# Altium schematic symbol library Amplifiers_and_Linear_Schlib.SchLib: 16 symbols
Pins are listed as number, name and electrical type; pins without a type are passive.

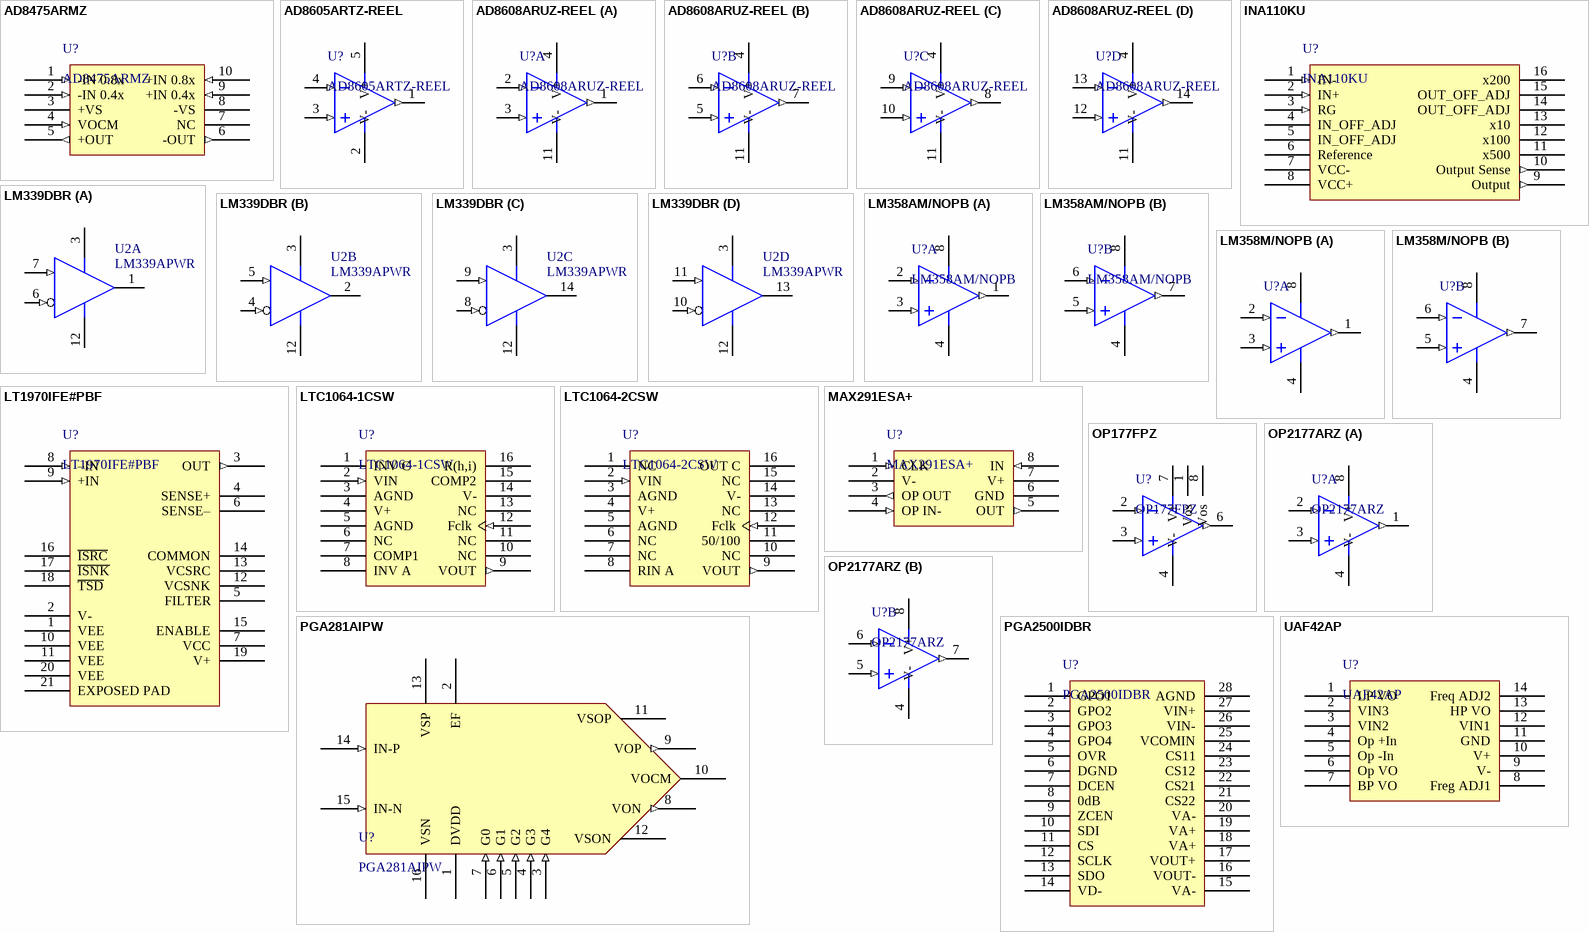
[diagram p0: symbols AD8475ARMZ to UAF42AP]

## AD8475ARMZ
designator U?
微分放大器 Prec Selectable Gain Funnel, MSOP 10P; 製造商: Analog Devices; 單價: 186.96; 參考網站: mouser; 參考網站: http://www.mouser.tw/ProductDetail/Analog-Devices/AD8475ARMZ/?qs=sGAEpiMZZMsFOcXqMdeHCZr1fvJ1U5LpDumODZtU%252bjs%3d; 資料手冊: http://www.mouser.com/ds/2/609/AD8475-877859.pdf
footprint MSOP 10P (3mm X 3mm (0.5mm))
pins: 1 -IN 0.8x (in), 2 -IN 0.4x (in), 3 +VS (power), 4 VOCM (in), 5 +OUT (out), 6 -OUT (out), 7 NC, 8 -VS (power), 9 +IN 0.4x (in), 10 +IN 0.8x (in)

## AD8605ARTZ-REEL
designator U?
精密放大器 Prec Low Noise CMOS RRIO SGL, SOT23-5; 製造商: Analog Devices; 單價: 58.51; 代理商: mouser; 參考網站: http://www.mouser.tw/ProductDetail/Analog-Devices/AD8605ARTZ-REEL/?qs=sGAEpiMZZMv9Q1JI0Mo%2ftcFMVY9cd4lZ; 資料手冊: http://www.mouser.com/ds/2/609/AD8605_8606_8608-243312.pdf
footprint SOT23-5
pins: 1 OUTA (out), 2 V- (power), 3 INA+ (in), 4 INA- (in), 5 V+ (power)

## AD8608ARUZ-REEL
designator U?
精密放大器 Low Noise CMOS RRIO Prec Quad, TSSOP 14P; 製造商: Analog Devices; 單價: 146.28; 代理商: mouser; 資料手冊: http://www.mouser.com/ds/2/609/AD8605_8606_8608-243312.pdf; 參考網站: http://www.mouser.tw/ProductDetail/Analog-Devices/AD8608ARUZ-REEL/?qs=sGAEpiMZZMv9Q1JI0Mo%2ftdNRPppd5HQc
footprint TSSOP 14P
part A pins: 1 OUTA (out), 2 INA- (in), 3 INA+ (in), 4 V+ (power), 11 V- (power)
part B pins: 4 V+ (power), 5 INA+ (in), 6 INA- (in), 7 OUTA (out), 11 V- (power)
part C pins: 4 V+ (power), 8 OUTA (out), 9 INA- (in), 10 INA+ (in), 11 V- (power)
part D pins: 4 V+ (power), 11 V- (power), 12 INA+ (in), 13 INA- (in), 14 OUTA (out)

## INA110KU
designator U?
儀表放大器 Fast-Settling FET-In Very High Accuracy, SOIC 16P; 製造商: Texas Instruments; 單價: 471.68; 代理商: mouser; 參考網站: http://www.mouser.tw/ProductDetail/Texas-Instruments/INA110KU/?qs=sGAEpiMZZMsE1dKaA2ImUPh%2fgv48%2feoely5VCfs50og%3d; 資料手冊: http://www.mouser.com/ds/2/405/ina110-443165.pdf
footprint SOIC 16P (7.5mm X 10.3mm)
pins: 1 IN- (in), 2 IN+ (in), 3 RG (in), 4 IN_OFF_ADJ, 5 IN_OFF_ADJ, 6 Reference, 7 VCC- (power), 8 VCC+ (power), 9 Output (out), 10 Output Sense (out), 11 x500, 12 x100, 13 x10, 14 OUT_OFF_ADJ, 15 OUT_OFF_ADJ, 16 x200

## LM339DBR
designator U2, comment LM339APWR
類比比較器 Quad Differential, TSSOP-14; 單價: 12.84; 製造商: Texas Instruments; 代理商: mouser; 參考網站: http://www.mouser.tw/ProductDetail/Texas-Instruments/LM339DBR/?qs=sGAEpiMZZMuayl%2fEk2kXcddlv8%252blGbVFnREqEb31QG4%3d; 資料手冊: http://www.mouser.com/ds/2/405/lm339-485168.pdf
simulation model LM339 (SUBCKT)
footprint TSSOP 14P
pins on every part: 3 VCC (power), 12 GND (power)
part A pins: 1 OUT (oc), 6 IN- (in), 7 IN+ (in)
part B pins: 2 OUT (oc), 4 IN- (in), 5 IN+ (in)
part C pins: 8 IN- (in), 9 IN+ (in), 14 OUT (oc)
part D pins: 10 IN- (in), 11 IN+ (in), 13 OUT (oc)

## LM358AM/NOPB
designator U?
運算放大器 - 運放器 LOW PWR DUAL OP AMP, SOIC 8P; 製造商: Texas Instruments; 單價: 30.33; 代理商: mouser; 參考網站: http://www.mouser.tw/ProductDetail/Texas-Instruments/LM358AM-NOPB/?qs=sGAEpiMZZMtCHixnSjNA6JlKxGj6zye%252bWmm%252b5K%252bh8uo%3d; 資料手冊: http://www.mouser.com/ds/2/405/lm358-n-443917.pdf
simulation model LM358 (SUBCKT)
footprint SOIC 8P (3.9mm 寬)
pins on every part: 4 GND (power), 8 V+ (power)
part A pins: 1 OUTA (out), 2 INA- (in), 3 INA+ (in)
part B pins: 5 INB+ (in), 6 INB- (in), 7 OUTB (out)

## LM358M/NOPB
designator U?
運算放大器 - 運放器 LOW PWR DUAL OP AMP, SOIC 8P; 單價: 32.82; 製造商: Texas Instruments; 代理商: mouser; 資料手冊: http://www.mouser.com/ds/2/405/lm358-n-443917.pdf; 參考網站: http://www.mouser.tw/ProductDetail/Texas-Instruments/LM358M-NOPB/?qs=sGAEpiMZZMtCHixnSjNA6JlKxGj6zye%252b8CnHdJfW0yc%3d
simulation model LM358 (SUBCKT)
footprint SOIC 8P (3.9mm 寬)
pins on every part: 4 GND (power), 8 V+ (power)
part A pins: 1 OUTA (out), 2 INA- (in), 3 INA+ (in)
part B pins: 5 INB+ (in), 6 INB- (in), 7 OUTB (out)

## LT1970IFE#PBF
designator U?
500mA Power Op Amp with  Adjustable Precision Current Limit; 單價: 448; 製造商: Linear Technology; 代理商: digikey; 分類: 放大器 IC; 參考網站: http://www.digikey.tw/product-detail/zh/linear-technology/LT1970IFE%23PBF/LT1970IFE%23PBF-ND/857804; 資料手冊: http://cds.linear.com/docs/en/datasheet/1970fe.pdf
footprint TSSOP-20-EP (20-TSSOP (0.173"、4.40 mm寬)裸焊盤)
pins: 1 VEE (power), 2 V- (power), 3 OUT (out), 4 SENSE+, 5 FILTER, 6 SENSE–, 7 VCC (power), 8 –IN (in), 9 +IN (in), 10 VEE (power), 11 VEE (power), 12 VCSNK, 13 VCSRC, 14 COMMON, 15 ENABLE, 16 ~{ISRC}, 17 ~{ISNK}, 18 ~{TSD}, 19 V+ (power), 20 VEE (power), 21 EXPOSED PAD

## LTC1064-1CSW
designator U?
Low Noise, 8th Order, Clock  Sweepable Elliptic Lowpass Filter; 單價: 867; 製造商: Linear Technology; 代理商: digikey; 資料手冊: http://cds.linear.com/docs/en/datasheet/10641fa.pdf; 參考網站: http://www.digikey.tw/product-detail/zh/linear-technology/LTC1064-1CSW%23PBF/LTC1064-1CSW%23PBF-ND/963939
footprint SOIC 16P (7.5mm X 10.3mm)
pins: 1 INV C, 2 VIN (in), 3 AGND (power), 4 V+ (power), 5 AGND (power), 6 NC, 7 COMP1, 8 INV A, 9 VOUT (out), 10 NC, 11 NC, 12 Fclk (in), 13 NC, 14 V- (power), 15 COMP2, 16 R(h,i)

## LTC1064-2CSW
designator U?
Low Noise, 8th Order, Clock  Sweepable Elliptic Lowpass Filter; 單價: 849; 製造商: Linear Technology; 代理商: digikey; 資料手冊: http://cds.linear.com/docs/en/datasheet/10642fa.pdf; 參考網站: http://www.digikey.tw/product-detail/zh/linear-technology/LTC1064-2CSW-PBF/LTC1064-2CSW-PBF-ND/890234
footprint SOIC 16P (7.5mm X 10.3mm)
pins: 1 NC, 2 VIN (in), 3 AGND (power), 4 V+ (power), 5 AGND (power), 6 NC, 7 NC, 8 RIN A, 9 VOUT (out), 10 NC, 11 50/100, 12 Fclk (in), 13 NC, 14 V- (power), 15 NC, 16 OUT C

## MAX291ESA+
designator U?
有源濾波器 8th-Order Lowpass Switched-Cap; 製造商: Maxim Integrated; 單價: 241.9; 代理商: mouser; 參考資料: http://www.mouser.com/ds/2/256/MAX291-MAX296-49378.pdf; 參考網站: http://www.mouser.tw/ProductDetail/Maxim-Integrated/MAX291ESA+/?qs=sGAEpiMZZMu%252bahkv8RvG%2fUF1U8idaPiV9Py2WE9CktY%3d
footprint SOIC 8P (3.9mm 寬)
pins: 1 CLK (in), 2 V- (power), 3 OP OUT (out), 4 OP IN- (in), 5 OUT (out), 6 GND (power), 7 V+ (power), 8 IN (in)

## OP177FPZ
designator U?
精密放大器 ULTRA-PREC IC Low Supply Crnt 2mA; 分類: 放大器 IC; 單價: 233.34; 製造商: Analog Devices; 代理商: mouser; 資料手冊: http://www.mouser.com/ds/2/609/OP177-879576.pdf; 參考網站: http://www.mouser.tw/ProductDetail/Analog-Devices/OP177FPZ/?qs=sGAEpiMZZMvtNjJQt4UgLalm6EXZly%2fywsoXsP8EL90%3d
footprint SOIC 8P (3.9mm 寬)
pins: 1 Vos, 2 INA- (in), 3 INA+ (in), 4 V- (power), 6 OUTA (out), 7 V+ (power), 8 Vos

## OP2177ARZ
designator U?
精密放大器 Prec Low Noise Low Input Bias Crnt Dual,  SOIC-8; 分類: 放大器 IC; 單價: 133.08; 製造商: Analog Devices; 代理商: mouser; 資料手冊: http://www.mouser.com/ds/2/609/OP1177_2177_4177-879575.pdf; 參考網站: http://www.mouser.tw/ProductDetail/Analog-Devices/OP2177ARZ/?qs=sGAEpiMZZMvtNjJQt4UgLalm6EXZly%2fyfO24%252bD%252bqh5s%3d
footprint SOIC 8P (3.9mm 寬)
part A pins: 1 OUTA (out), 2 INA- (in), 3 INA+ (in), 4 V- (power), 8 V+ (power)
part B pins: 4 V- (power), 5 INB+ (in), 6 INB- (in), 7 OUTB (out), 8 V+ (power)

## PGA281AIPW
designator U?
儀表放大器 Zero-Drift,High Vltg Program Gain Amp; 製造商: Texas Instruments; 代理商: mouser; 單價: 233.7; 參考網站: http://www.mouser.tw/ProductDetail/Texas-Instruments/PGA281AIPW/?qs=sGAEpiMZZMsE1dKaA2ImUPjdPBp%2fWMrm2LDhCI7T2QE%3d; 資料手冊: http://www.mouser.com/ds/2/405/pga281-442514.pdf
footprint TSSOP 16P (4.40 mm寬)
pins: 1 DVDD (power), 2 EF, 3 G4 (in), 4 G3 (in), 5 G2 (in), 6 G1 (in), 7 G0 (in), 8 VON (out), 9 VOP (out), 10 VOCM, 11 VSOP (power), 12 VSON (power), 13 VSP (power), 14 IN-P (in), 15 IN-N (in), 16 VSN (power)

## PGA2500IDBR
designator U?
麥克風前置放大器 0dB & 10dB-65dB in 1dB steps, SSOP 28P; 製造商: Texas Instruments; 代理商: mouser; 單價: 535.90; 參考網站: http://www.mouser.tw/ProductDetail/Texas-Instruments/PGA2500IDBR/?qs=sGAEpiMZZMt7FrWooXVB13FCgdfO0nma; 資料手冊: http://www.mouser.com/ds/2/405/pga2500-444424.pdf
footprint SSOP 28P (0.65mm)
pins: 1 GPO1, 2 GPO2, 3 GPO3, 4 GPO4, 5 OVR, 6 DGND, 7 DCEN, 8 0dB, 9 ZCEN, 10 SDI, 11 CS, 12 SCLK, 13 SDO, 14 VD-, 15 VA-, 16 VOUT-, 17 VOUT+, 18 VA+, 19 VA+, 20 VA-, 21 CS22, 22 CS21, 23 CS12, 24 CS11, 25 VCOMIN, 26 VIN-, 27 VIN+, 28 AGND

## UAF42AP
designator U?
UNIVERSAL ACTIVE FILTER
footprint DIP-14
pins: 1 LP VO, 2 VIN3, 3 VIN2, 4 Op +In, 5 Op -In, 6 Op VO , 7 BP VO, 8 Freg ADJ1, 9 V-, 10 V+, 11 GND, 12 VIN1, 13 HP VO, 14 Freq ADJ2